# Altium footprint library acopians-powerspy-ac-power-hw-library-pcb.PcbLib: 43 footprints (part 3 of 3)
Each footprint in its own frame and in the unit in brackets; x right, y up, seen from the top. Pads: shape width x height; smd on the part's side, far side on the other; paste and mask are expansions set on the pad; w line width, h text height; cw(c..) or ccw(c..) is an arc to the next point about the centre after c.
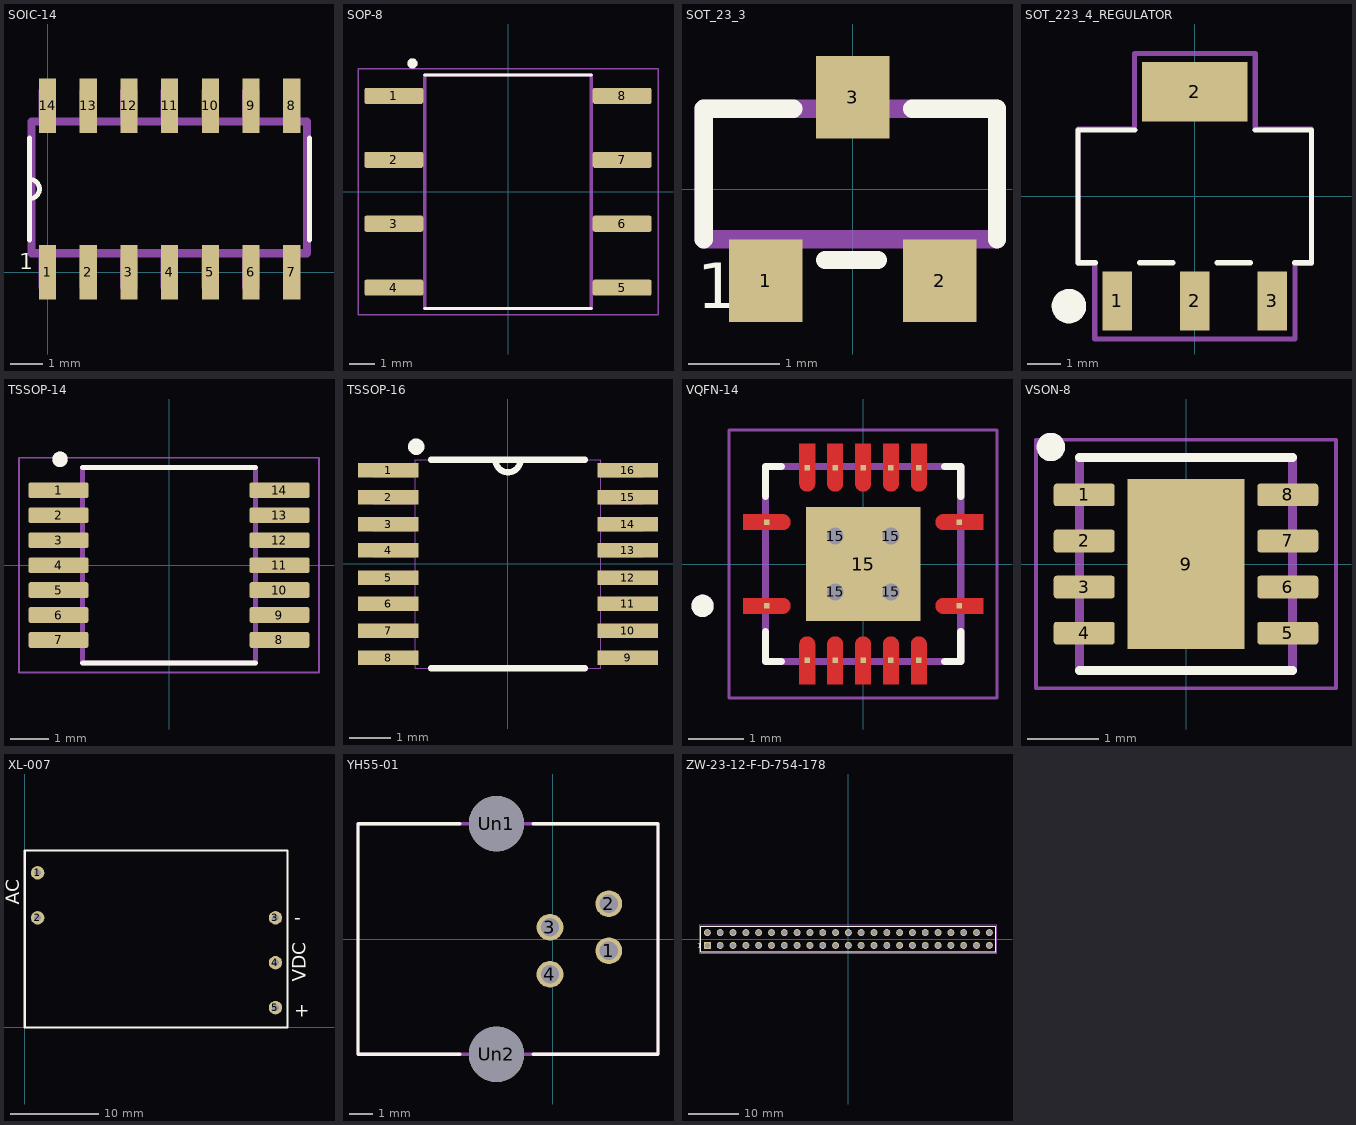
[diagram p2: the footprints below, top view; thin cyan lines are the x and y axes]

## SOIC-14 [mil]
pads (14):
  rect 21x67 smd: 1(0,0) 2(50,0) 3(100,0) 4(150,0) 5(200,0) 6(250,0) 7(300,0) 8(300,204) 9(250,204) 10(200,204) 11(150,204) 12(100,204) 13(50,204) 14(0,204)
Top Overlay:
  lines w6: -22,39 -22,90 ; -22,165 -22,114 ; 322,39 322,165 ; -22,90 ccw(c-22,102) -22,114 ; -22,90 -22,114
  text "1" at -35.04,3.57 h19.68
Mechanical 13:
  lines w0: -22,90 ccw(c-22,102) -22,114 ; -22,90 -22,23 322,23 322,181 -22,181 -22,114 ; -22,90 -22,114 ; -10,-20 10,-20 10,23 -10,23 -10,-20 ; -10,181 -10,224 10,224 10,181 -10,181 ; 40,-20 60,-20 60,23 40,23 40,-20 ; 40,181 40,224 60,224 60,181 40,181 ; 90,-20 110,-20 110,23 90,23 90,-20 ; 90,181 90,224 110,224 110,181 90,181 ; 140,-20 160,-20 160,23 140,23 140,-20 ; 140,181 140,224 160,224 160,181 140,181 ; 190,-20 210,-20 210,23 190,23 190,-20 ; 190,181 190,224 210,224 210,181 190,181 ; 240,-20 260,-20 260,23 240,23 240,-20 ; 240,181 240,224 260,224 260,181 240,181 ; 290,-20 310,-20 310,23 290,23 290,-20 ; 290,181 290,224 310,224 310,181 290,181
  lines w10: -19.68,23 318.9,23 318.9,185.04 -19.68,185.04 -19.68,23
  text ".Designator" at 104.49,86.11 h39.37
3D body "74HC04D.STEP": height 68.9, standoff 0, extent -20.28,-16.11 320.28,220.11

## SOP-8 [mm]
pads (8):
  rrect25% 2.34x0.64 smd: 1(-4.535,3.81) 2(-4.535,1.27) 3(-4.535,-1.27) 4(-4.535,-3.81) 5(4.535,-3.81) 6(4.535,-1.27) 7(4.535,1.27) 8(4.535,3.81)
Top Overlay:
  circle w0.2: c-3.8,5.1 r0.1
  lines w0.127: -3.31,-4.643 3.31,-4.643 ; -3.31,4.643 3.31,4.643
Mechanical 13:
  circle w0.2: c-3.8,5.1 r0.1
  lines w0.127: -3.31,-4.643 3.31,-4.643 3.31,4.643 -3.31,4.643 -3.31,-4.643
  text ".Designator" at -1.622,-1.007 h1.52
Mechanical 15:
  lines w0.05: -5.96,-4.892 5.96,-4.892 5.96,4.892 -5.96,4.892 -5.96,-4.892
3D body "step_temp.STEP": height 4.85, standoff 0, extent -5.2,-4.643 5.2,4.643

## SOT_23_3 [mm]
pads (3):
  rect 0.8x0.9 smd: 1(-0.95,-1) 2(0.95,-1) 3(0,1)
Top Overlay:
  lines w0.2: -1.625,-0.55 -1.625,0.875 -0.65,0.875 ; -0.3,-0.775 0.275,-0.775 ; 0.65,0.875 1.575,0.875 1.575,-0.55
  text "1" at -1.7,-1.3 h0.5
Mechanical 13:
  text ".Designator" at -0.816,-0.295 h0.8
Mechanical 29:
  lines w0.2: -1.625,-0.55 -1.625,0.875 1.575,0.875 1.575,-0.55 -1.625,-0.55
  text "'.Designator'" at -0.95,-0.05 h0.5
  text "1" at -1.7,-1.3 h0.5
3D body "User Library-SOT-23-3.STEP": height 1.02, standoff 0.01, extent -1.525,-1.2 1.475,1.3

## SOT_223_4_REGULATOR [mil]
pads (4):
  rect 35x69.5 smd: 1(-91,-122.75) 2(0,-122.75) 3(91,-122.75)
  rect 124x69.5 smd: 2(0,122.75)
Top Overlay:
  lines w6: -116.96,-78 -137,-78 -137,78 -70.46,78 ; -65.04,-78 -25.96,-78 ; 25.96,-78 65.04,-78 ; 70.46,78 137,78 137,-78 116.96,-78
  lines w20.47: -137.89,-130.3 cw(c-147.8,-128.94) -137.8,-128.94
Mechanical 13:
  text ".Designator" at -25,-6.88 h39.37
Mechanical 29:
  circle w19.68: c-147.64,-128.94 r9.84
  lines w6: -137.08,-78.74 -117.5,-78.74 -117.5,-167.5 117.5,-167.5 117.5,-78.74 137.08,-78.74 137.08,78.74 71,78.74 71,167.5 -71,167.5 -71,78.74 -137.08,78.74 -137.08,-78.74
  text "'.Designator'" at -64.96,-22.64 h39.37
3D body "DCY4.step": height 67.6, standoff 0.5, extent -132.11,-144.49 131.89,142.52

## TSSOP-14 [mm]
pads (14):
  rrect25% 1.56x0.41 smd: 1(-2.88,1.95) 2(-2.88,1.3) 3(-2.88,0.65) 4(-2.88,0) 5(-2.88,-0.65) 6(-2.88,-1.3) 7(-2.88,-1.95) 8(2.88,-1.95) 9(2.88,-1.3) 10(2.88,-0.65) 11(2.88,0) 12(2.88,0.65) 13(2.88,1.3) 14(2.88,1.95)
Top Overlay:
  circle w0.2: c-2.84,2.76 r0.1
  lines w0.127: -2.25,-2.55 2.25,-2.55 ; -2.25,2.55 2.25,2.55
Mechanical 13:
  circle w0.2: c-2.84,2.76 r0.1
  lines w0.127: -2.25,-2.55 2.25,-2.55 2.25,2.55 -2.25,2.55 -2.25,-2.55
  text ".Designator" at -1.522,-0.807 h1.52
Mechanical 15:
  lines w0.05: -3.91,-2.8 3.91,-2.8 3.91,2.8 -3.91,2.8 -3.91,-2.8
3D body "User Library-TSSOP14-1.step": height 1.1, standoff 0, extent -3.2,-2.5 3.2,2.5

## TSSOP-16 [mil]
pads (16):
  rect 58x14 smd: 1(-115,90) 2(-115,64) 3(-115,38) 4(-115,13) 5(-115,-13) 6(-115,-38) 7(-115,-64) 8(-115,-90) 9(115,-90) 10(115,-64) 11(115,-38) 12(115,-13) 13(115,13) 14(115,38) 15(115,64) 16(115,90)
Top Overlay:
  circle w7.87: c-88.19,112.6 r3.94
  lines w6: -74,-100 74,-100 ; -74,100 -12,100 ; 74,100 12,100 ; -12,100 ccw(c0,100) 12,100 ; -12,100 12,100
Mechanical 13:
  lines w0: -12,100 ccw(c0,100) 12,100 ; -12,100 12,100 ; -12,100 -89,100 -89,-100 89,-100 89,100 12,100 ; -130,-95 -130,-84 -89,-84 -89,-95 -130,-95 ; -130,-70 -130,-58 -89,-58 -89,-70 -130,-70 ; -130,-44 -130,-32 -89,-32 -89,-44 -130,-44 ; -130,-19 -130,-7 -89,-7 -89,-19 -130,-19 ; -130,7 -130,19 -89,19 -89,7 -130,7 ; -130,32 -130,44 -89,44 -89,32 -130,32 ; -130,58 -130,70 -89,70 -89,58 -130,58 ; -130,84 -130,95 -89,95 -89,84 -130,84 ; 89,-95 89,-84 130,-84 130,-95 89,-95 ; 89,-70 89,-58 130,-58 130,-70 89,-70 ; 89,-44 89,-32 130,-32 130,-44 89,-44 ; 89,-19 89,-7 130,-7 130,-19 89,-19 ; 89,7 89,19 130,19 130,7 89,7 ; 89,32 89,44 130,44 130,32 89,32 ; 89,58 89,70 130,70 130,58 89,58 ; 89,84 89,95 130,95 130,84 89,84
  text ".Designator" at -44.17,-31.78 h60
3D body "step_temp.STEP": height 43.31, standoff 0, extent -125.98,-98.43 125.98,98.43

## VQFN-14 [mm]
pads (19):
  rect 0.1x0.1 smd paste-1 mask+0: 1(-1.725,-0.75) 2(-1,-1.725) 3(-0.5,-1.725) 4(0,-1.725) 5(0.5,-1.725) 6(1,-1.725) 7(1.725,-0.75) 8(1.725,0.75) 9(1,1.725) 10(0.5,1.725) 11(0,1.725) 12(-0.5,1.725) 13(-1,1.725) 14(-1.725,0.75)
  round 0.4 hole 0.3: 15(-0.5,-0.5) 15(-0.5,0.5) 15(0.5,-0.5) 15(0.5,0.5)
  rect 2.05x2.05 smd paste-2: 15(0,0)
Top Layer:
  region: -1.425,0.889 -1.418,0.888 -1.411,0.887 -1.404,0.885 -1.397,0.883 -1.39,0.881 -1.383,0.878 -1.376,0.875 -1.37,0.871 -1.364,0.867 -1.358,0.863 -1.352,0.859 -1.346,0.854 -1.341,0.849 -1.336,0.844 -1.331,0.838 -1.327,0.832 -1.323,0.826 -1.319,0.82 -1.315,0.814 -1.312,0.807 -1.309,0.8 -1.307,0.793 -1.305,0.786 -1.303,0.779 -1.302,0.772 -1.301,0.765 -1.3,0.757 -1.3,0.75 -1.3,0.743 -1.301,0.735 -1.302,0.728 -1.303,0.721 -1.305,0.714 -1.307,0.707 -1.309,0.7 -1.312,0.693 -1.315,0.686 -1.319,0.68 -1.323,0.674 -1.327,0.668 -1.331,0.662 -1.336,0.656 -1.341,0.651 -1.346,0.646 -1.352,0.641 -1.358,0.637 -1.364,0.633 -1.37,0.629 -1.376,0.625 -1.383,0.622 -1.39,0.619 -1.397,0.617 -1.404,0.615 -1.411,0.613 -1.418,0.612 -1.425,0.611 -1.433,0.61 -2.15,0.61 -2.15,0.89 -1.433,0.89
  region: -1.425,-0.611 -1.418,-0.612 -1.411,-0.613 -1.404,-0.615 -1.397,-0.617 -1.39,-0.619 -1.383,-0.622 -1.376,-0.625 -1.37,-0.629 -1.364,-0.633 -1.358,-0.637 -1.352,-0.641 -1.346,-0.646 -1.341,-0.651 -1.336,-0.656 -1.331,-0.662 -1.327,-0.668 -1.323,-0.674 -1.319,-0.68 -1.315,-0.686 -1.312,-0.693 -1.309,-0.7 -1.307,-0.707 -1.305,-0.714 -1.303,-0.721 -1.302,-0.728 -1.301,-0.735 -1.3,-0.743 -1.3,-0.75 -1.3,-0.757 -1.301,-0.765 -1.302,-0.772 -1.303,-0.779 -1.305,-0.786 -1.307,-0.793 -1.309,-0.8 -1.312,-0.807 -1.315,-0.814 -1.319,-0.82 -1.323,-0.826 -1.327,-0.832 -1.331,-0.838 -1.336,-0.844 -1.341,-0.849 -1.346,-0.854 -1.352,-0.859 -1.358,-0.863 -1.364,-0.867 -1.37,-0.871 -1.376,-0.875 -1.383,-0.878 -1.39,-0.881 -1.397,-0.883 -1.404,-0.885 -1.411,-0.887 -1.418,-0.888 -1.425,-0.889 -1.433,-0.89 -2.15,-0.89 -2.15,-0.61 -1.433,-0.61
  region: 2.15,0.61 1.433,0.61 1.425,0.611 1.418,0.612 1.411,0.613 1.404,0.615 1.397,0.617 1.39,0.619 1.383,0.622 1.376,0.625 1.37,0.629 1.364,0.633 1.358,0.637 1.352,0.641 1.346,0.646 1.341,0.651 1.336,0.656 1.331,0.662 1.327,0.668 1.323,0.674 1.319,0.68 1.315,0.686 1.312,0.693 1.309,0.7 1.307,0.707 1.305,0.714 1.303,0.721 1.302,0.728 1.301,0.735 1.3,0.743 1.3,0.75 1.3,0.757 1.301,0.765 1.302,0.772 1.303,0.779 1.305,0.786 1.307,0.793 1.309,0.8 1.312,0.807 1.315,0.814 1.319,0.82 1.323,0.826 1.327,0.832 1.331,0.838 1.336,0.844 1.341,0.849 1.346,0.854 1.352,0.859 1.358,0.863 1.364,0.867 1.37,0.871 1.376,0.875 1.383,0.878 1.39,0.881 1.397,0.883 1.404,0.885 1.411,0.887 1.418,0.888 1.425,0.889 1.433,0.89 2.15,0.89
  region: 2.15,-0.89 1.433,-0.89 1.425,-0.889 1.418,-0.888 1.411,-0.887 1.404,-0.885 1.397,-0.883 1.39,-0.881 1.383,-0.878 1.376,-0.875 1.37,-0.871 1.364,-0.867 1.358,-0.863 1.352,-0.859 1.346,-0.854 1.341,-0.849 1.336,-0.844 1.331,-0.838 1.327,-0.832 1.323,-0.826 1.319,-0.82 1.315,-0.814 1.312,-0.807 1.309,-0.8 1.307,-0.793 1.305,-0.786 1.303,-0.779 1.302,-0.772 1.301,-0.765 1.3,-0.757 1.3,-0.75 1.3,-0.743 1.301,-0.735 1.302,-0.728 1.303,-0.721 1.305,-0.714 1.307,-0.707 1.309,-0.7 1.312,-0.693 1.315,-0.686 1.319,-0.68 1.323,-0.674 1.327,-0.668 1.331,-0.662 1.336,-0.656 1.341,-0.651 1.346,-0.646 1.352,-0.641 1.358,-0.637 1.364,-0.633 1.37,-0.629 1.376,-0.625 1.383,-0.622 1.39,-0.619 1.397,-0.617 1.404,-0.615 1.411,-0.613 1.418,-0.612 1.425,-0.611 1.433,-0.61 2.15,-0.61
  region: -0.985,-1.301 -0.978,-1.302 -0.971,-1.303 -0.964,-1.305 -0.957,-1.307 -0.95,-1.309 -0.943,-1.312 -0.936,-1.315 -0.93,-1.319 -0.924,-1.323 -0.918,-1.327 -0.912,-1.331 -0.906,-1.336 -0.901,-1.341 -0.896,-1.346 -0.891,-1.352 -0.887,-1.358 -0.883,-1.364 -0.879,-1.37 -0.875,-1.376 -0.872,-1.383 -0.869,-1.39 -0.867,-1.397 -0.865,-1.404 -0.863,-1.411 -0.862,-1.418 -0.861,-1.425 -0.86,-1.433 -0.86,-1.44 -0.86,-2.15 -1.14,-2.15 -1.14,-1.44 -1.14,-1.433 -1.139,-1.425 -1.138,-1.418 -1.137,-1.411 -1.135,-1.404 -1.133,-1.397 -1.131,-1.39 -1.128,-1.383 -1.125,-1.376 -1.121,-1.37 -1.117,-1.364 -1.113,-1.358 -1.109,-1.352 -1.104,-1.346 -1.099,-1.341 -1.094,-1.336 -1.088,-1.331 -1.082,-1.327 -1.076,-1.323 -1.07,-1.319 -1.064,-1.315 -1.057,-1.312 -1.05,-1.309 -1.043,-1.307 -1.036,-1.305 -1.029,-1.303 -1.022,-1.302 -1.015,-1.301 -1.007,-1.3 -0.993,-1.3
  region: -0.485,-1.301 -0.478,-1.302 -0.471,-1.303 -0.464,-1.305 -0.457,-1.307 -0.45,-1.309 -0.443,-1.312 -0.436,-1.315 -0.43,-1.319 -0.424,-1.323 -0.418,-1.327 -0.412,-1.331 -0.406,-1.336 -0.401,-1.341 -0.396,-1.346 -0.391,-1.352 -0.387,-1.358 -0.383,-1.364 -0.379,-1.37 -0.375,-1.376 -0.372,-1.383 -0.369,-1.39 -0.367,-1.397 -0.365,-1.404 -0.363,-1.411 -0.362,-1.418 -0.361,-1.425 -0.36,-1.433 -0.36,-1.44 -0.36,-2.15 -0.64,-2.15 -0.64,-1.44 -0.64,-1.433 -0.639,-1.425 -0.638,-1.418 -0.637,-1.411 -0.635,-1.404 -0.633,-1.397 -0.631,-1.39 -0.628,-1.383 -0.625,-1.376 -0.621,-1.37 -0.617,-1.364 -0.613,-1.358 -0.609,-1.352 -0.604,-1.346 -0.599,-1.341 -0.594,-1.336 -0.588,-1.331 -0.582,-1.327 -0.576,-1.323 -0.57,-1.319 -0.564,-1.315 -0.557,-1.312 -0.55,-1.309 -0.543,-1.307 -0.536,-1.305 -0.529,-1.303 -0.522,-1.302 -0.515,-1.301 -0.507,-1.3 -0.493,-1.3
  region: 0.015,-1.301 0.022,-1.302 0.029,-1.303 0.036,-1.305 0.043,-1.307 0.05,-1.309 0.057,-1.312 0.064,-1.315 0.07,-1.319 0.076,-1.323 0.082,-1.327 0.088,-1.331 0.094,-1.336 0.099,-1.341 0.104,-1.346 0.109,-1.352 0.113,-1.358 0.117,-1.364 0.121,-1.37 0.125,-1.376 0.128,-1.383 0.131,-1.39 0.133,-1.397 0.135,-1.404 0.137,-1.411 0.138,-1.418 0.139,-1.425 0.14,-1.433 0.14,-1.44 0.14,-2.15 -0.14,-2.15 -0.14,-1.44 -0.14,-1.433 -0.139,-1.425 -0.138,-1.418 -0.137,-1.411 -0.135,-1.404 -0.133,-1.397 -0.131,-1.39 -0.128,-1.383 -0.125,-1.376 -0.121,-1.37 -0.117,-1.364 -0.113,-1.358 -0.109,-1.352 -0.104,-1.346 -0.099,-1.341 -0.094,-1.336 -0.088,-1.331 -0.082,-1.327 -0.076,-1.323 -0.07,-1.319 -0.064,-1.315 -0.057,-1.312 -0.05,-1.309 -0.043,-1.307 -0.036,-1.305 -0.029,-1.303 -0.022,-1.302 -0.015,-1.301 -0.007,-1.3 0.007,-1.3
  region: 0.515,-1.301 0.522,-1.302 0.529,-1.303 0.536,-1.305 0.543,-1.307 0.55,-1.309 0.557,-1.312 0.564,-1.315 0.57,-1.319 0.576,-1.323 0.582,-1.327 0.588,-1.331 0.594,-1.336 0.599,-1.341 0.604,-1.346 0.609,-1.352 0.613,-1.358 0.617,-1.364 0.621,-1.37 0.625,-1.376 0.628,-1.383 0.631,-1.39 0.633,-1.397 0.635,-1.404 0.637,-1.411 0.638,-1.418 0.639,-1.425 0.64,-1.433 0.64,-1.44 0.64,-2.15 0.36,-2.15 0.36,-1.44 0.36,-1.433 0.361,-1.425 0.362,-1.418 0.363,-1.411 0.365,-1.404 0.367,-1.397 0.369,-1.39 0.372,-1.383 0.375,-1.376 0.379,-1.37 0.383,-1.364 0.387,-1.358 0.391,-1.352 0.396,-1.346 0.401,-1.341 0.406,-1.336 0.412,-1.331 0.418,-1.327 0.424,-1.323 0.43,-1.319 0.436,-1.315 0.443,-1.312 0.45,-1.309 0.457,-1.307 0.464,-1.305 0.471,-1.303 0.478,-1.302 0.485,-1.301 0.493,-1.3 0.507,-1.3
  region: 0.64,1.44 0.64,1.433 0.639,1.425 0.638,1.418 0.637,1.411 0.635,1.404 0.633,1.397 0.631,1.39 0.628,1.383 0.625,1.376 0.621,1.37 0.617,1.364 0.613,1.358 0.609,1.352 0.604,1.346 0.599,1.341 0.594,1.336 0.588,1.331 0.582,1.327 0.576,1.323 0.57,1.319 0.564,1.315 0.557,1.312 0.55,1.309 0.543,1.307 0.536,1.305 0.529,1.303 0.522,1.302 0.515,1.301 0.507,1.3 0.493,1.3 0.485,1.301 0.478,1.302 0.471,1.303 0.464,1.305 0.457,1.307 0.45,1.309 0.443,1.312 0.436,1.315 0.43,1.319 0.424,1.323 0.418,1.327 0.412,1.331 0.406,1.336 0.401,1.341 0.396,1.346 0.391,1.352 0.387,1.358 0.383,1.364 0.379,1.37 0.375,1.376 0.372,1.383 0.369,1.39 0.367,1.397 0.365,1.404 0.363,1.411 0.362,1.418 0.361,1.425 0.36,1.433 0.36,1.44 0.36,2.15 0.64,2.15
  region: 0.14,1.44 0.14,1.433 0.139,1.425 0.138,1.418 0.137,1.411 0.135,1.404 0.133,1.397 0.131,1.39 0.128,1.383 0.125,1.376 0.121,1.37 0.117,1.364 0.113,1.358 0.109,1.352 0.104,1.346 0.099,1.341 0.094,1.336 0.088,1.331 0.082,1.327 0.076,1.323 0.07,1.319 0.064,1.315 0.057,1.312 0.05,1.309 0.043,1.307 0.036,1.305 0.029,1.303 0.022,1.302 0.015,1.301 0.007,1.3 -0.007,1.3 -0.015,1.301 -0.022,1.302 -0.029,1.303 -0.036,1.305 -0.043,1.307 -0.05,1.309 -0.057,1.312 -0.064,1.315 -0.07,1.319 -0.076,1.323 -0.082,1.327 -0.088,1.331 -0.094,1.336 -0.099,1.341 -0.104,1.346 -0.109,1.352 -0.113,1.358 -0.117,1.364 -0.121,1.37 -0.125,1.376 -0.128,1.383 -0.131,1.39 -0.133,1.397 -0.135,1.404 -0.137,1.411 -0.138,1.418 -0.139,1.425 -0.14,1.433 -0.14,1.44 -0.14,2.15 0.14,2.15
  region: -0.36,1.44 -0.36,1.433 -0.361,1.425 -0.362,1.418 -0.363,1.411 -0.365,1.404 -0.367,1.397 -0.369,1.39 -0.372,1.383 -0.375,1.376 -0.379,1.37 -0.383,1.364 -0.387,1.358 -0.391,1.352 -0.396,1.346 -0.401,1.341 -0.406,1.336 -0.412,1.331 -0.418,1.327 -0.424,1.323 -0.43,1.319 -0.436,1.315 -0.443,1.312 -0.45,1.309 -0.457,1.307 -0.464,1.305 -0.471,1.303 -0.478,1.302 -0.485,1.301 -0.493,1.3 -0.507,1.3 -0.515,1.301 -0.522,1.302 -0.529,1.303 -0.536,1.305 -0.543,1.307 -0.55,1.309 -0.557,1.312 -0.564,1.315 -0.57,1.319 -0.576,1.323 -0.582,1.327 -0.588,1.331 -0.594,1.336 -0.599,1.341 -0.604,1.346 -0.609,1.352 -0.613,1.358 -0.617,1.364 -0.621,1.37 -0.625,1.376 -0.628,1.383 -0.631,1.39 -0.633,1.397 -0.635,1.404 -0.637,1.411 -0.638,1.418 -0.639,1.425 -0.64,1.433 -0.64,1.44 -0.64,2.15 -0.36,2.15
  region: -0.86,1.44 -0.86,1.433 -0.861,1.425 -0.862,1.418 -0.863,1.411 -0.865,1.404 -0.867,1.397 -0.869,1.39 -0.872,1.383 -0.875,1.376 -0.879,1.37 -0.883,1.364 -0.887,1.358 -0.891,1.352 -0.896,1.346 -0.901,1.341 -0.906,1.336 -0.912,1.331 -0.918,1.327 -0.924,1.323 -0.93,1.319 -0.936,1.315 -0.943,1.312 -0.95,1.309 -0.957,1.307 -0.964,1.305 -0.971,1.303 -0.978,1.302 -0.985,1.301 -0.993,1.3 -1.007,1.3 -1.015,1.301 -1.022,1.302 -1.029,1.303 -1.036,1.305 -1.043,1.307 -1.05,1.309 -1.057,1.312 -1.064,1.315 -1.07,1.319 -1.076,1.323 -1.082,1.327 -1.088,1.331 -1.094,1.336 -1.099,1.341 -1.104,1.346 -1.109,1.352 -1.113,1.358 -1.117,1.364 -1.121,1.37 -1.125,1.376 -1.128,1.383 -1.131,1.39 -1.133,1.397 -1.135,1.404 -1.137,1.411 -1.138,1.418 -1.139,1.425 -1.14,1.433 -1.14,1.44 -1.14,2.15 -0.86,2.15
  region: 1.14,1.44 1.14,1.433 1.139,1.425 1.138,1.418 1.137,1.411 1.135,1.404 1.133,1.397 1.131,1.39 1.128,1.383 1.125,1.376 1.121,1.37 1.117,1.364 1.113,1.358 1.109,1.352 1.104,1.346 1.099,1.341 1.094,1.336 1.088,1.331 1.082,1.327 1.076,1.323 1.07,1.319 1.064,1.315 1.057,1.312 1.05,1.309 1.043,1.307 1.036,1.305 1.029,1.303 1.022,1.302 1.015,1.301 1.007,1.3 0.993,1.3 0.985,1.301 0.978,1.302 0.971,1.303 0.964,1.305 0.957,1.307 0.95,1.309 0.943,1.312 0.936,1.315 0.93,1.319 0.924,1.323 0.918,1.327 0.912,1.331 0.906,1.336 0.901,1.341 0.896,1.346 0.891,1.352 0.887,1.358 0.883,1.364 0.879,1.37 0.875,1.376 0.872,1.383 0.869,1.39 0.867,1.397 0.865,1.404 0.863,1.411 0.862,1.418 0.861,1.425 0.86,1.433 0.86,1.44 0.86,2.15 1.14,2.15
  region: 1.015,-1.301 1.022,-1.302 1.029,-1.303 1.036,-1.305 1.043,-1.307 1.05,-1.309 1.057,-1.312 1.064,-1.315 1.07,-1.319 1.076,-1.323 1.082,-1.327 1.088,-1.331 1.094,-1.336 1.099,-1.341 1.104,-1.346 1.109,-1.352 1.113,-1.358 1.117,-1.364 1.121,-1.37 1.125,-1.376 1.128,-1.383 1.131,-1.39 1.133,-1.397 1.135,-1.404 1.137,-1.411 1.138,-1.418 1.139,-1.425 1.14,-1.433 1.14,-1.44 1.14,-2.15 0.86,-2.15 0.86,-1.44 0.86,-1.433 0.861,-1.425 0.862,-1.418 0.863,-1.411 0.865,-1.404 0.867,-1.397 0.869,-1.39 0.872,-1.383 0.875,-1.376 0.879,-1.37 0.883,-1.364 0.887,-1.358 0.891,-1.352 0.896,-1.346 0.901,-1.341 0.906,-1.336 0.912,-1.331 0.918,-1.327 0.924,-1.323 0.93,-1.319 0.936,-1.315 0.943,-1.312 0.95,-1.309 0.957,-1.307 0.964,-1.305 0.971,-1.303 0.978,-1.302 0.985,-1.301 0.993,-1.3 1.007,-1.3
Top Overlay:
  circle w0.2: c-2.875,-0.75 r0.1
  lines w0.127: -1.75,-1.21 -1.75,-1.75 -1.46,-1.75 ; -1.75,1.21 -1.75,1.75 -1.46,1.75 ; 1.46,-1.75 1.75,-1.75 1.75,-1.21 ; 1.46,1.75 1.75,1.75 1.75,1.21
Top Paste:
  drawing of 18 lines, arcs and shapes, not listed
Top Solder:
  drawing of 14 lines, arcs and shapes, not listed
Mechanical 13:
  circle w0.2: c-2.875,-0.75 r0.1
  lines w0.127: -1.75,-1.75 1.75,-1.75 1.75,1.75 -1.75,1.75 -1.75,-1.75
  text ".Designator" at -1.1,-0.467 h1
Mechanical 15:
  lines w0.05: -2.4,-2.4 -2.4,2.4 2.4,2.4 2.4,-2.4 -2.4,-2.4
3D body "RGY14_2P05X2P05.step": height 1, standoff 0, extent -1.876,-1.876 1.876,1.876

## VSON-8 [mm]
pads (9):
  rrect25% 0.86x0.32 smd mask+0.07: 1(-1.435,0.975) 2(-1.435,0.325) 3(-1.435,-0.325) 4(-1.435,-0.975) 5(1.435,-0.975) 6(1.435,-0.325) 7(1.435,0.325) 8(1.435,0.975)
  rect 1.65x2.4 smd paste-2 mask+0.07: 9(0,0)
Top Overlay:
  circle w0.2: c-1.905,1.651 r0.1
  lines w0.127: -1.5,-1.5 1.5,-1.5 ; -1.5,1.5 1.5,1.5
Top Paste:
  region: 0.52,-0.76 -0.52,-0.76 -0.52,0.76 0.52,0.76
Mechanical 13:
  circle w0.2: c-1.905,1.651 r0.1
  lines w0.127: -1.5,-1.5 1.5,-1.5 1.5,1.5 -1.5,1.5 -1.5,-1.5
  text ".Designator" at -0.7,-0.367 h1
Mechanical 15:
  lines w0.05: -2.115,-1.75 2.115,-1.75 2.115,1.75 -2.115,1.75 -2.115,-1.75
3D body "TPS2115ADRBR--3DModel-STEP-56544.STEP": height 1, standoff 0, extent -1.5,-1.5 1.5,1.5

## XL-007 [mil]
pads (5):
  round 60 hole 30: 1(57.09,688.19) 2(57.09,488.19) 3(1116.14,488.19) 4(1116.14,288.19) 5(1116.14,88.19)
Top Overlay:
  lines w10: 0,0 1169.29,0 1169.29,787.4 0,787.4 0,0
  text "-" at 1198.98,460.32 h60
  text "+" at 1198.98,47.25 h60
  text "VDC" at 1249.84,202.91 h60
  text "AC" at -25.75,545.43 h60
Mechanical 13:
  text ".Designator" at 429.13,345.14 h78.74

## YH55-01 [mm]
pads (6):
  round 1.16 hole 0.8: 1(2.435,-0.51) 2(2.435,1.53) 3(-0.115,0.51) 4(-0.115,-1.53)
  round 2.4 hole 2.4 unplated: Un1(-2.435,5) Un2(-2.435,-5)
Top Overlay:
  lines w0.15: -4.035,-5 -8.435,-5 -8.435,5 -4.035,5 ; -0.835,-5 4.565,-5 4.565,5 -0.835,5
Mechanical 13:
  lines w0.15: -8.435,-5 -8.435,5 -0.835,5 4.565,5 4.565,-5 -0.835,-5 -8.435,-5
  text ".Designator" at -4.6,-0.934 h2
3D body: height 14.5, standoff 0, extent -8.4,-5 4.6,5

## ZW-23-12-F-D-754-178 [mm]
pads (46):
  rect 1.37x1.37 hole 1.02: 01(-27.94,-1.27)
  round 1.37 hole 1.02: 02(-27.94,1.27) 03(-25.4,-1.27) 04(-25.4,1.27) 05(-22.86,-1.27) 06(-22.86,1.27) 07(-20.32,-1.27) 08(-20.32,1.27) 09(-17.78,-1.27) 10(-17.78,1.27) 11(-15.24,-1.27) 12(-15.24,1.27) 13(-12.7,-1.27) 14(-12.7,1.27) 15(-10.16,-1.27) 16(-10.16,1.27) 17(-7.62,-1.27) 18(-7.62,1.27) 19(-5.08,-1.27) 20(-5.08,1.27) 21(-2.54,-1.27) 22(-2.54,1.27) 23(0,-1.27) 24(0,1.27) 25(2.54,-1.27) 26(2.54,1.27) 27(5.08,-1.27) 28(5.08,1.27) 29(7.62,-1.27) 30(7.62,1.27) 31(10.16,-1.27) 32(10.16,1.27) 33(12.7,-1.27) 34(12.7,1.27) 35(15.24,-1.27) 36(15.24,1.27) 37(17.78,-1.27) 38(17.78,1.27) 39(20.32,-1.27) 40(20.32,1.27) 41(22.86,-1.27) 42(22.86,1.27) 43(25.4,-1.27) 44(25.4,1.27) 45(27.94,-1.27) 46(27.94,1.27)
Top Overlay:
  lines w0.2: -29.21,-2.54 29.21,-2.54 29.21,2.54 -29.21,2.54 -29.21,-2.54
  text "1" at -30,-1.8 h1
Mechanical 13:
  lines w0.1: -29.21,-2.54 29.21,-2.54 29.21,2.54 -29.21,2.54 -29.21,-2.54
  text "1" at -30,-1.8 h1
  text ".Designator" at -1.58,-0.731 h2
Mechanical 15:
  lines w0.05: -29.46,-2.79 29.46,-2.79 29.46,2.79 -29.46,2.79 -29.46,-2.79
3D body "ZW-23-12-F-D-754-178.stp": height 21.64, standoff -4.52, extent -29.21,-2.54 29.21,2.54